# Altium schematic symbol library ATM90E36A_AU_R.SchLib: 1 symbol
Pins are listed as number, name and electrical type; pins without a type are passive.

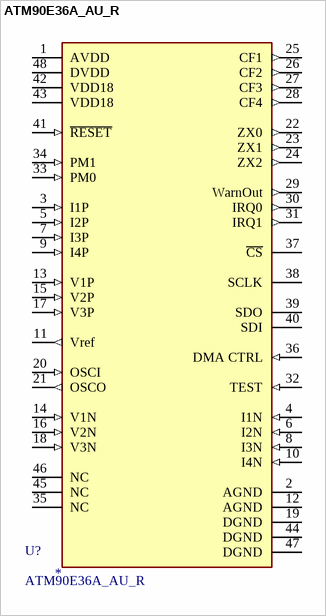
[diagram p0: symbol ATM90E36A_AU_R]

## ATM90E36A_AU_R
designator U?
2.8V~3.6V 23mA TQFP-48(7x7)  Energy Metering ICs ROHS; LCSC: *
footprint ATM90E36A-AU-R
pins: 1 AVDD (power), 2 AGND (power), 3 I1P (in), 4 I1N (in), 5 I2P (in), 6 I2N (in), 7 I3P (in), 8 I3N (in), 9 I4P (in), 10 I4N (in), 11 Vref (out), 12 AGND (power), 13 V1P (in), 14 V1N (in), 15 V2P (in), 16 V2N (in), 17 V3P (in), 18 V3N (in), 19 DGND (power), 20 OSCI (in), 21 OSCO (out), 22 ZX0 (out), 23 ZX1 (out), 24 ZX2 (out), 25 CF1 (out), 26 CF2 (out), 27 CF3 (out), 28 CF4 (out), 29 WarnOut (out), 30 IRQ0 (out), 31 IRQ1 (out), 32 TEST (in), 33 PM0 (in), 34 PM1 (in), 35 NC, 36 DMA CTRL (in), 37 ~{CS}, 38 SCLK, 39 SDO, 40 SDI, 41 ~{RESET} (in), 42 VDD18 (power), 43 VDD18 (power), 44 DGND (power), 45 NC, 46 NC, 47 DGND (power), 48 DVDD (power)